# Altium schematic symbol library A.SchLib: 21 symbols
Pins are listed as number, name and electrical type; pins without a type are passive.

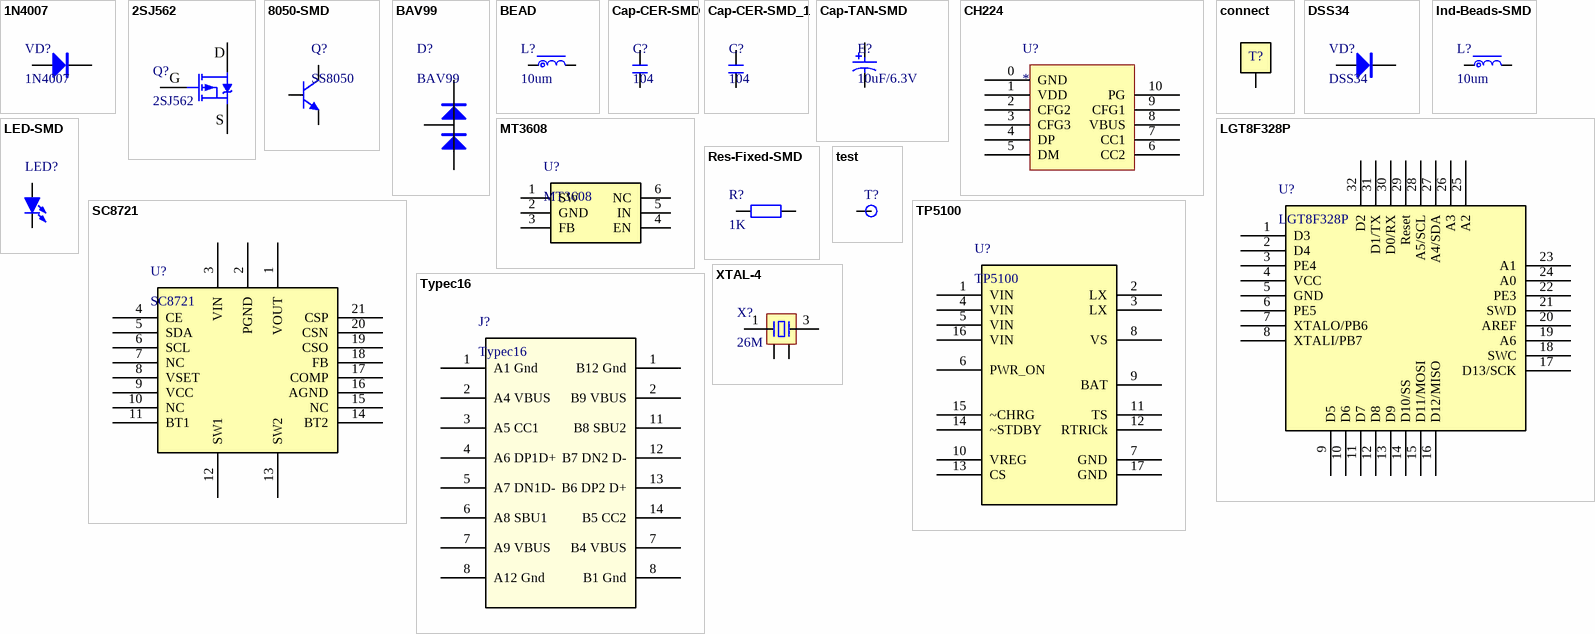
[diagram p0: symbols 1N4007 to XTAL-4]

## 1N4007
designator VD?
整流二极管; 版权归属: 源创客; BOM名称: 整流二极管; 学习资源: www.ooocke.com
footprint DO-41 (2.6*9.1mm(直径，脚距）)
footprint SOD-123 (2.7x1.6X1.1mm（长宽高，不包括引脚）)
footprint SMA (4.5x2.6*2.2mm（长宽高，不包括引脚）)
footprint DO-41V (2.6*3.5mm(直径，脚距）)
pins: 1 A, 2 K

## 2SJ562
designator Q?
P沟道场效应管; 版权归属: 源创客; BOM名称: P沟道场效应管; 学习资源: www.ooocke.com
footprint SOT89 (SOT89, 3-Leads, Body 4.5x2.4 mm, Pitch 1.5mm, Lead Span 4.1mm, IPC Medium Density)
pins: 1 G, 2 D, 3 S

## 8050-SMD
designator Q?, comment SS8050
高频放大-NPN型; 版权归属: 源创客; 属性: 40V 1.5A 1W 100MHZ; BOM名称: 高频放大-NPN型; 学习资源: www.ooocke.com
footprint SOT23-3N (3x1.3x1mm(长宽高))
footprint SOT23-3L (3x1.3x1mm(长宽高))
footprint SOT23-3M (3x1.3x1mm(长宽高))
pins: 1 B, 2 E, 3 C

## BAV99
designator D?
footprint SOT23-3N (3x1.3x1mm(长宽高))
pins: 1, 2, 3

## BEAD
designator L?, comment 10um
BEAD
footprint L 0805 (小功率贴片电感)
footprint L252010
footprint R0520
pins: 1, 2

## Cap-CER-SMD
designator C?, comment 104
瓷片电容-贴片
footprint C 0201 (无极性贴片电容)
footprint C 0402 (无极性贴片电容)
footprint C 0603 (无极性贴片电容)
footprint C 0805 (无极性贴片电容)
footprint C 1206 (无极性贴片电容)
footprint C 1210 (无极性贴片电容)
footprint C 1808 (无极性贴片电容)
footprint C 1812 (无极性贴片电容)
footprint C 1825 (无极性贴片电容)
footprint C 2225 (无极性贴片电容)
pins: 1, 2

## Cap-CER-SMD_1
designator C?, comment 104
瓷片电容-贴片
footprint C 0201 (无极性贴片电容)
footprint C 0402 (无极性贴片电容)
footprint C 0603 (无极性贴片电容)
footprint C 0805 (无极性贴片电容)
footprint C 1206 (无极性贴片电容)
footprint C 1210 (无极性贴片电容)
footprint C 1808 (无极性贴片电容)
footprint C 1812 (无极性贴片电容)
footprint C 1825 (无极性贴片电容)
footprint C 2225 (无极性贴片电容)
pins: 1, 2

## Cap-TAN-SMD
designator E?, comment 10uF/6.3V
钽电解电容-贴片
footprint CD A(3216) (长3.2mm，宽1.6mm，厚1.6mm)
footprint CD B(3528) (长3.5mm，宽2.8mm，厚1.9mm)
footprint CD C(6032) (长6.0mm，宽3.2mm，厚2.5mm)
footprint CD D(7343) (长7.3mm，宽4.3mm，厚2.8mm)
footprint CD E(7343H) (长7.3mm，宽4.3mm，厚4.0mm)
footprint CD S(2012) (长2.0mm，宽1.25mm，厚1.2mm)
pins: A, K

## CH224
designator U?
footprint SOP10_N (5*6*1.8mm（长宽高）)
pins: 0 GND, 1 VDD, 2 CFG2, 3 CFG3, 4 DP, 5 DM, 6 CC2, 7 CC1, 8 VBUS, 9 CFG1, 10 PG

## connect
designator T?, comment 1  (value not drawn)
footprint connect
pins: 1

## DSS34
designator VD?
肖特基二极管; 版权归属: 源创客; 属性: 40V/3A; BOM名称: 肖特基二极管; 学习资源: www.ooocke.com
footprint SOD-123F (2.7x1.6X1.1mm（长宽高，不包括引脚）)
pins: 1 A, 2 K

## Ind-Beads-SMD
designator L?, comment 10um
贴片电感
footprint L 0805 (小功率贴片电感)
footprint L252010
footprint R0624
pins: 1, 2

## LED-SMD
designator LED?, comment 红色  (value not drawn)
贴片LED
footprint LED 0603B (蓝色0603LED)
footprint LED 0805B (蓝色0805LED)
pins: 1 A, 2 K

## LGT8F328P
designator U?
footprint TQFP32 7x7_N (32脚，体宽：7x7mm, 脚距：0.8mm)
pins: 1 D3, 2 D4, 3 PE4, 4 VCC, 5 GND, 6 PE5, 7 XTALO/PB6, 8 XTALI/PB7, 9 D5, 10 D6, 11 D7, 12 D8, 13 D9, 14 D10/SS, 15 D11/MOSI, 16 D12/MISO, 17 D13/SCK, 18 SWC, 19 A6, 20 AREF, 21 SWD, 22 PE3, 23 A1, 24 A0, 25 A2, 26 A3, 27 A4/SDA, 28 A5/SCL, 29 Reset, 30 D0/RX, 31 D1/TX, 32 D2

## MT3608
designator U?
footprint SOT23-6N (3x1.6x1.1mm(长宽高))
pins: 1 SW, 2 GND, 3 FB, 4 EN, 5 IN, 6 NC

## Res-Fixed-SMD
designator R?, comment 1K
固定电阻器-贴片
footprint Res-SMD-0201 (1/20W贴片电阻)
footprint Res-SMD-0402 (1/16W贴片电阻)
footprint Res-SMD-0603 (1/10W贴片电阻)
footprint Res-SMD-0805 (1/8W贴片电阻)
footprint Res-SMD-1206 (1/4W贴片电阻)
footprint Res-SMD-1210 (1/3W贴片电阻)
footprint Res-SMD-1812 (1/2W贴片电阻)
footprint Res-SMD-2010 (3/4W贴片电阻)
footprint Res-SMD-2512 (1W贴片电阻)
pins: 1, 2

## SC8721
designator U?
footprint QFN-21_L4.0-W4.0-P0.40-BL_SC8721QFER
pins: 1 VOUT, 2 PGND, 3 VIN, 4 CE, 5 SDA, 6 SCL, 7 NC, 8 VSET, 9 VCC, 10 NC, 11 BT1, 12 SW1, 13 SW2, 14 BT2, 15 NC, 16 AGND, 17 COMP, 18 FB, 19 CSO, 20 CSN, 21 CSP

## test
designator T?  (value not drawn)
footprint TEST 1.6 (测试点1.6mm)
pins: 1

## TP5100
designator U?
footprint TQFN-16_L4.0-W4.0-P0.65-BL-EP
pins: 1 VIN, 2 LX, 3 LX, 4 VIN, 5 VIN, 6 PWR_ON, 7 GND, 8 VS, 9 BAT, 10 VREG, 11 TS, 12 RTRICk, 13 CS, 14 ~STDBY, 15 ~CHRG, 16 VIN, 17 GND

## Typec16
designator J?
footprint typec 16p
pins: 1 A1 Gnd, 1 B12 Gnd, 2 A4 VBUS, 2 B9 VBUS, 3 A5 CC1, 4 A6 DP1D+, 5 A7 DN1D-, 6 A8 SBU1, 7 A9 VBUS, 7 B4 VBUS, 8 A12 Gnd, 8 B1 Gnd, 11 B8 SBU2, 12 B7 DN2 D-, 13 B6 DP2 D+, 14 B5 CC2

## XTAL-4
designator X?, comment 26M
4脚晶振
footprint XTAL-5032
footprint XTAL-3225
pins: 1, 2, 3, 4